# EAGLE library part OVM7690-R20A (library BoneCapeParts)
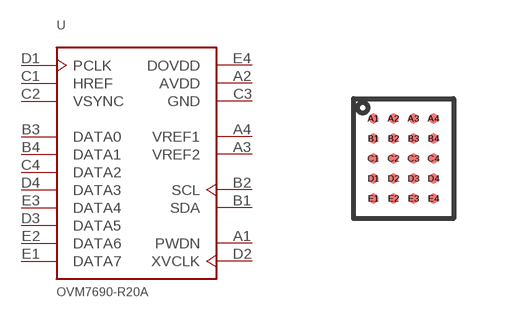
[diagram p7: symbol with the pads of OVM7690-R20A; footprint OVM7690-R20A]

Designator prefix -

## OVM7690-R20A  [OVM7690-R20A]
A1  PWDN  in
A2  AVDD  sup
A3  VREF2  pas
A4  VREF1  pas
B1  SDA  oc
B2  SCL  oc
B3  DATA0  out
B4  DATA1  out
C1  HREF  out
C2  VSYNC  out
C3  GND  sup
C4  DATA2  out
D1  PCLK  out
D2  XVCLK  in
D3  DATA5  out
D4  DATA3  out
E1  DATA7  out
E2  DATA6  out
E3  DATA4  out
E4  DOVDD  sup

## Footprint OVM7690-R20A (pad centres in mm)
smd 0.25 x 0.25: A1 -0.75,1; A2 -0.25,1; A3 0.25,1; A4 0.75,1; B1 -0.75,0.5; B2 -0.25,0.5; B3 0.25,0.5; B4 0.75,0.5; C1 -0.75,0; C2 -0.25,0; C3 0.25,0; C4 0.75,0; D1 -0.75,-0.5; D2 -0.25,-0.5; D3 0.25,-0.5; D4 0.75,-0.5; E1 -0.75,-1; E2 -0.25,-1; E3 0.25,-1; E4 0.75,-1